# Altium schematic symbol library SCH - POWER - SWITCHMODE - TI TPS543820RPY.SchLib: 1 symbol
Pins are listed as number, name and electrical type; pins without a type are passive.

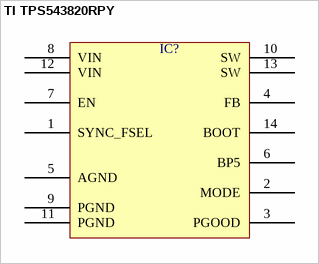
[diagram p0: symbol TI TPS543820RPY]

## TI TPS543820RPY
designator IC?  (value not drawn)
pins: 1 SYNC_FSEL, 2 MODE, 3 PGOOD, 4 FB, 5 AGND, 6 BP5, 7 EN, 8 VIN, 9 PGND, 10 SW, 11 PGND, 12 VIN, 13 SW, 14 BOOT